# Altium schematic symbol library LED_Nixie_Display.SchLib: 3 symbols
Pins are listed as number, name and electrical type; pins without a type are passive.

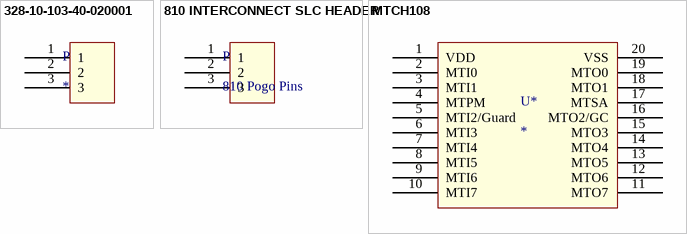
[diagram p0: symbols 328-10-103-40-020001 to MTCH108]

## 328-10-103-40-020001
designator P
footprint 328-10-103-40-020001
pins: 1, 2, 3

## 810 INTERCONNECT SLC HEADER
designator P, comment 810 Pogo Pins
ComponentLink1Description: Max Mill; ComponentLink1URL: https://www.mill-max.com/products/socket/810-xx-xxx-40-001101; ComponentLink2Description: DigiKey; ComponentLink2URL: https://www.digikey.com.au/product-detail/en/mill-max-manufacturing-corp/810-22-003-40-001101/ED90475-ND/2305460
footprint 810 INTERCONNECT SLC HEADER
pins: 1, 2, 3

## MTCH108
designator U*
ComponentLink1Description: Datasheet; ComponentLink1URL: http://ww1.microchip.com/downloads/en/DeviceDoc/40001793C.pdf
footprint MTCH-108 SSOP
pins: 1 VDD, 2 MTI0, 3 MTI1, 4 MTPM, 5 MTI2/Guard, 6 MTI3, 7 MTI4, 8 MTI5, 9 MTI6, 10 MTI7, 11 MTO7, 12 MTO6, 13 MTO5, 14 MTO4, 15 MTO3, 16 MTO2/GC, 17 MTSA, 18 MTO1, 19 MTO0, 20 VSS